# Altium schematic symbol library SW_SPST_PUSH.Schlib: 1 symbol
Pins are listed as number, name and electrical type; pins without a type are passive.

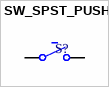
[diagram p0: symbol SW_SPST_PUSH]

## SW_SPST_PUSH
designator S?
pins: COM COMMON, NO Normally Open